# Altium integrated library WE-UCF SMD Common Mode Line Filter.IntLib: 11 symbols
Pins are listed as number, name and electrical type; pins without a type are passive.

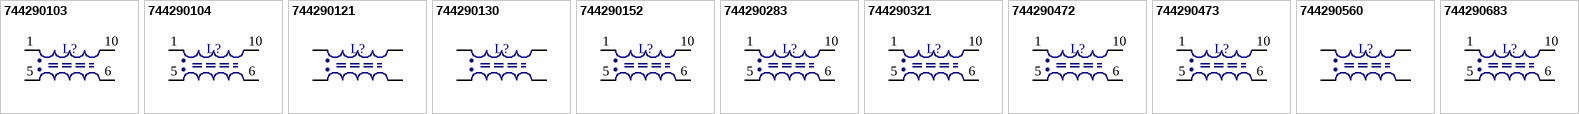
[diagram p0: symbols 744290103 to 744290683]

## 744290103
designator L?
WE-UCF SMD Common Mode Line Filter, L=10 mH; PartNumber: 744290103; Inductance: 10 mH; PackageReference: WE-UCF_2 turns; ComponentLink1Description: Manufacturer URL; ComponentLink1URL: http://www.we-online.com; ComponentLink2Description: Datasheet; ComponentLink2URL: http://katalog.we-online.de/pbs/datasheet/744290103.pdf
footprint WE-UCF_2 turns (SMD Common Mode Line Filter, 8-Leads, Body 14x12.5mm)
pins: 1, 5, 6, 10

## 744290104
designator L?
WE-UCF SMD Common Mode Line Filter, L=100 mH; PartNumber: 744290104; Inductance: 100 mH; PackageReference: WE-UCF_2 turns; ComponentLink1Description: Manufacturer URL; ComponentLink1URL: http://www.we-online.com; ComponentLink2Description: Datasheet; ComponentLink2URL: http://katalog.we-online.de/pbs/datasheet/744290104.pdf
footprint WE-UCF_2 turns (SMD Common Mode Line Filter, 8-Leads, Body 14x12.5mm)
pins: 1, 5, 6, 10

## 744290121
designator L?
WE-UCF SMD Common Mode Line Filter, L=0.12 mH; PartNumber: 744290121; Inductance: 0.12 mH; PackageReference: WE-UCF_4 turns; ComponentLink1Description: Manufacturer URL; ComponentLink1URL: http://www.we-online.com; ComponentLink2Description: Datasheet; ComponentLink2URL: http://katalog.we-online.de/pbs/datasheet/744290121.pdf
footprint WE-UCF_4 turns (SMD Common Mode Line Filter, 8-Leads, Body 14x12.5mm)
pins: 1 1,2, 5 4,5, 6 6,7, 10 9,10

## 744290130
designator L?
WE-UCF SMD Common Mode Line Filter, L=0.013 mH; PartNumber: 744290130; PackageReference: WE-UCF_4 turns; Inductance: 0.013 mH; ComponentLink1Description: Manufacturer URL; ComponentLink1URL: http://www.we-online.com; ComponentLink2Description: Datasheet; ComponentLink2URL: http://katalog.we-online.de/pbs/datasheet/744290130.pdf
footprint WE-UCF_4 turns (SMD Common Mode Line Filter, 8-Leads, Body 14x12.5mm)
pins: 1 1,2, 5 4,5, 6 6,7, 10 9,10

## 744290152
designator L?
WE-UCF SMD Common Mode Line Filter, L=1.5 mH; PartNumber: 744290152; Inductance: 1.5 mH; PackageReference: WE-UCF_2 turns; ComponentLink1Description: Manufacturer URL; ComponentLink1URL: http://www.we-online.com; ComponentLink2Description: Datasheet; ComponentLink2URL: http://katalog.we-online.de/pbs/datasheet/744290152.pdf
footprint WE-UCF_2 turns (SMD Common Mode Line Filter, 8-Leads, Body 14x12.5mm)
pins: 1, 5, 6, 10

## 744290283
designator L?
WE-UCF SMD Common Mode Line Filter, L=28 mH; PartNumber: 744290283; Inductance: 28 mH; PackageReference: WE-UCF_2 turns; ComponentLink1Description: Manufacturer URL; ComponentLink1URL: http://www.we-online.com; ComponentLink2Description: Datasheet; ComponentLink2URL: http://katalog.we-online.de/pbs/datasheet/744290283.pdf
footprint WE-UCF_2 turns (SMD Common Mode Line Filter, 8-Leads, Body 14x12.5mm)
pins: 1, 5, 6, 10

## 744290321
designator L?
WE-UCF SMD Common Mode Line Filter, L=0.32 mH; PartNumber: 744290321; Inductance: 0.32 mH; PackageReference: WE-UCF_2 turns; ComponentLink1Description: Manufacturer URL; ComponentLink1URL: http://www.we-online.com; ComponentLink2Description: Datasheet; ComponentLink2URL: http://katalog.we-online.de/pbs/datasheet/744290321.pdf
footprint WE-UCF_2 turns (SMD Common Mode Line Filter, 8-Leads, Body 14x12.5mm)
pins: 1, 5, 6, 10

## 744290472
designator L?
WE-UCF SMD Common Mode Line Filter, L=0.4.7 mH; PartNumber: 744290472; Inductance: 4.7 mH; PackageReference: WE-UCF_2 turns; ComponentLink1Description: Manufacturer URL; ComponentLink1URL: http://www.we-online.com; ComponentLink2Description: Datasheet; ComponentLink2URL: http://katalog.we-online.de/pbs/datasheet/744290472.pdf
footprint WE-UCF_2 turns (SMD Common Mode Line Filter, 8-Leads, Body 14x12.5mm)
pins: 1, 5, 6, 10

## 744290473
designator L?
WE-UCF SMD Common Mode Line Filter, L=47 mH; PartNumber: 744290473; Inductance: 47 mH; PackageReference: WE-UCF_2 turns; ComponentLink1Description: Manufacturer URL; ComponentLink1URL: http://www.we-online.com; ComponentLink2Description: Datasheet; ComponentLink2URL: http://katalog.we-online.de/pbs/datasheet/744290473.pdf
footprint WE-UCF_2 turns (SMD Common Mode Line Filter, 8-Leads, Body 14x12.5mm)
pins: 1, 5, 6, 10

## 744290560
designator L?
WE-UCF SMD Common Mode Line Filter, L=0.056 mH; PartNumber: 744290560; PackageReference: WE-UCF_4 turns; Inductance: 0.056 mH; ComponentLink1Description: Manufacturer URL; ComponentLink1URL: http://www.we-online.com; ComponentLink2Description: Datasheet; ComponentLink2URL: http://katalog.we-online.de/pbs/datasheet/744290560.pdf
footprint WE-UCF_4 turns (SMD Common Mode Line Filter, 8-Leads, Body 14x12.5mm)
pins: 1 1,2, 5 4,5, 6 6,7, 10 9,10

## 744290683
designator L?
WE-UCF SMD Common Mode Line Filter, L=68 mH; PartNumber: 744290683; Inductance: 68 mH; PackageReference: WE-UCF_2 turns; ComponentLink1Description: Manufacturer URL; ComponentLink1URL: http://www.we-online.com; ComponentLink2Description: Datasheet; ComponentLink2URL: http://katalog.we-online.de/pbs/datasheet/744290683.pdf
footprint WE-UCF_2 turns (SMD Common Mode Line Filter, 8-Leads, Body 14x12.5mm)
pins: 1, 5, 6, 10